# EAGLE library part LTC3405 (library wheat)
IC, BUCK REG, LTC3405
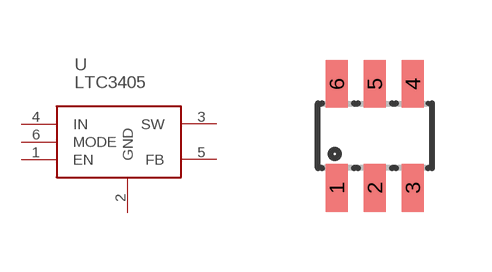
[diagram p64: symbol with the pads of SOT23-6; footprint SOT23-6]

Designator prefix U

## LTC3405""  [SOT23-6]
1  EN  in
2  GND  pwr
3  SW
4  IN  in
5  FB  in
6  MODE  in

## Footprint SOT23-6 (pad centres in mm)
SOT23 6 LEADS
smd 0.55 x 1.2: 1 -0.95,-1.3; 2 0,-1.3; 3 0.95,-1.3; 4 0.95,1.3; 5 0,1.3; 6 -0.95,1.3